# Altium footprint library M_SCREW_TERM_Keystone_7760.PcbLib: 1 footprints
Each footprint in its own frame and in the unit in brackets; x right, y up, seen from the top. Pads: shape width x height; smd on the part's side, far side on the other; paste and mask are expansions set on the pad; w line width, h text height; cw(c..) or ccw(c..) is an arc to the next point about the centre after c.
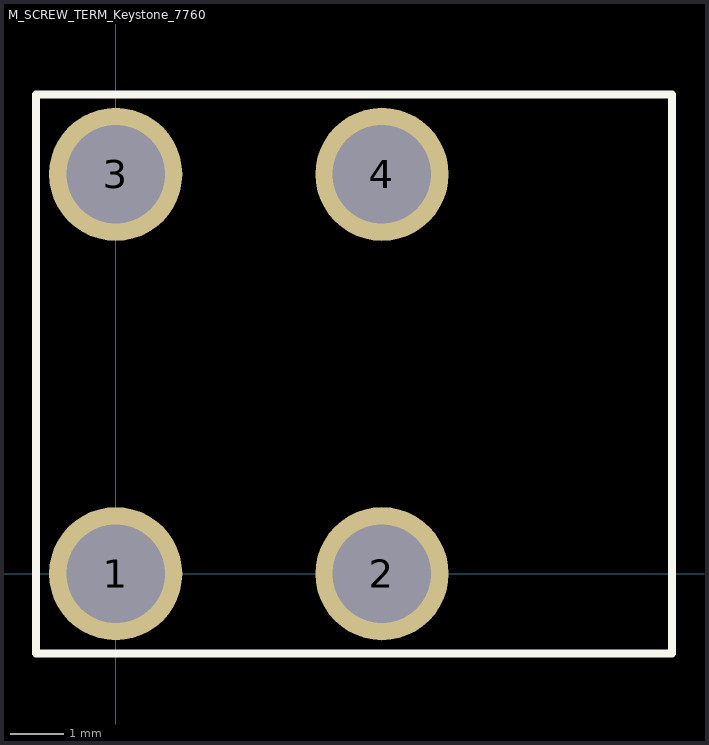
[diagram p0: the footprint, top view; thin cyan lines are the x and y axes]

## M_SCREW_TERM_Keystone_7760 [mm] "Screw terminal right angle 3mm screw"
pads (4):
  round 2.5 hole 1.85: 1(0,0) 2(5,0) 3(0,7.5) 4(5,7.5)
Top Overlay:
  lines w0.152: -1.5,-1.5 -1.5,9 10.45,9 10.45,0.025 10.45,-1.5 -1.5,-1.5
3D body "keystone-PN7760.STEP": height 7.92, standoff -5.08, extent -1.502,-0.945 10.022,8.468